# EAGLE library part KL-5641-ASR (library mgvc)
Индикатор 4 разряда 0.56" Красный, катод, черный фон KL-5641-ASR
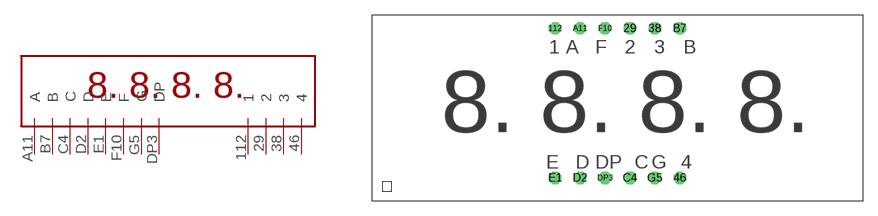
[diagram p0: symbol with the pads of KL-5641-ASR; footprint KL-5641-ASR]

Designator prefix -

## KL-5641-ASR  [KL-5641-ASR]
29  2
38  3
46  4
112  1
A11  A
B7  B
C4  C
D2  D
DP3  DP
E1  E
F10  F
G5  G

## Footprint KL-5641-ASR (pad centres in mm)
Индикатор 4 разряда 0.56" Красный, катод, черный фон KL-5641-ASR
drill 0.5 pad 1.27 octagon: 29 1.27,7.62; 38 3.81,7.62; 46 6.35,-7.62; 112 -6.35,7.62; A11 -3.81,7.62; B7 6.35,7.62; C4 1.27,-7.62; D2 -3.81,-7.62; DP3 -1.27,-7.62; E1 -6.35,-7.62; F10 -1.27,7.62; G5 3.81,-7.62